# EAGLE library part THS8134 (library xess)
TI 8-bit video DAC
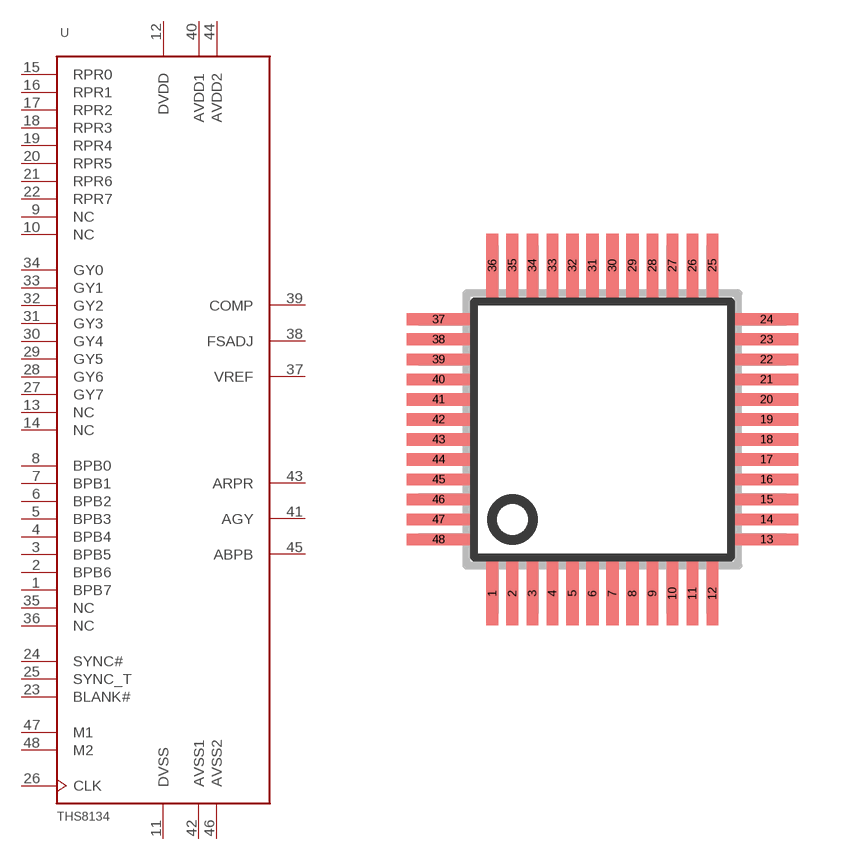
[diagram p42: symbol with the pads of S-PQFP-G48; footprint S-PQFP-G48]

Designator prefix U

## THS8134  [S-PQFP-G48]
1  BPB7  in
2  BPB6  in
3  BPB5  in
4  BPB4  in
5  BPB3  in
6  BPB2  in
7  BPB1  in
8  BPB0  in
9  NC  nc
10  NC  nc
11  DVSS  pwr
12  DVDD  pwr
13  NC  nc
14  NC  nc
15  RPR0  in
16  RPR1  in
17  RPR2  in
18  RPR3  in
19  RPR4  in
20  RPR5  in
21  RPR6  in
22  RPR7  in
23  BLANK#  in
24  SYNC#  in
25  SYNC_T  in
26  CLK  in
27  GY7  in
28  GY6  in
29  GY5  in
30  GY4  in
31  GY3  in
32  GY2  in
33  GY1  in
34  GY0  in
35  NC  nc
36  NC  nc
37  VREF  in
38  FSADJ  in
39  COMP  in
40  AVDD1  pwr
41  AGY  out
42  AVSS1  pwr
43  ARPR  out
44  AVDD2  pwr
45  ABPB  out
46  AVSS2  pwr
47  M1  in
48  M2  in

## Footprint S-PQFP-G48 (pad centres in mm)
smd 0.3 x 1.6: 1 -2.75,-4.1; 2 -2.25,-4.1; 3 -1.75,-4.1; 4 -1.25,-4.1; 5 -0.75,-4.1; 6 -0.25,-4.1; 7 0.25,-4.1; 8 0.75,-4.1; 9 1.25,-4.1; 10 1.75,-4.1; 11 2.25,-4.1; 12 2.75,-4.1; 25 2.75,4.1; 26 2.25,4.1; 27 1.75,4.1; 28 1.25,4.1; 29 0.75,4.1; 30 0.25,4.1; 31 -0.25,4.1; 32 -0.75,4.1; 33 -1.25,4.1; 34 -1.75,4.1; 35 -2.25,4.1; 36 -2.75,4.1
smd 1.6 x 0.3: 13 4.1,-2.75; 14 4.1,-2.25; 15 4.1,-1.75; 16 4.1,-1.25; 17 4.1,-0.75; 18 4.1,-0.25; 19 4.1,0.25; 20 4.1,0.75; 21 4.1,1.25; 22 4.1,1.75; 23 4.1,2.25; 24 4.1,2.75; 37 -4.1,2.75; 38 -4.1,2.25; 39 -4.1,1.75; 40 -4.1,1.25; 41 -4.1,0.75; 42 -4.1,0.25; 43 -4.1,-0.25; 44 -4.1,-0.75; 45 -4.1,-1.25; 46 -4.1,-1.75; 47 -4.1,-2.25; 48 -4.1,-2.75